# Altium footprint library IC.PcbLib: 14 footprints
Each footprint in its own frame and in the unit in brackets; x right, y up, seen from the top. Pads: shape width x height; smd on the part's side, far side on the other; paste and mask are expansions set on the pad; w line width, h text height; cw(c..) or ccw(c..) is an arc to the next point about the centre after c.
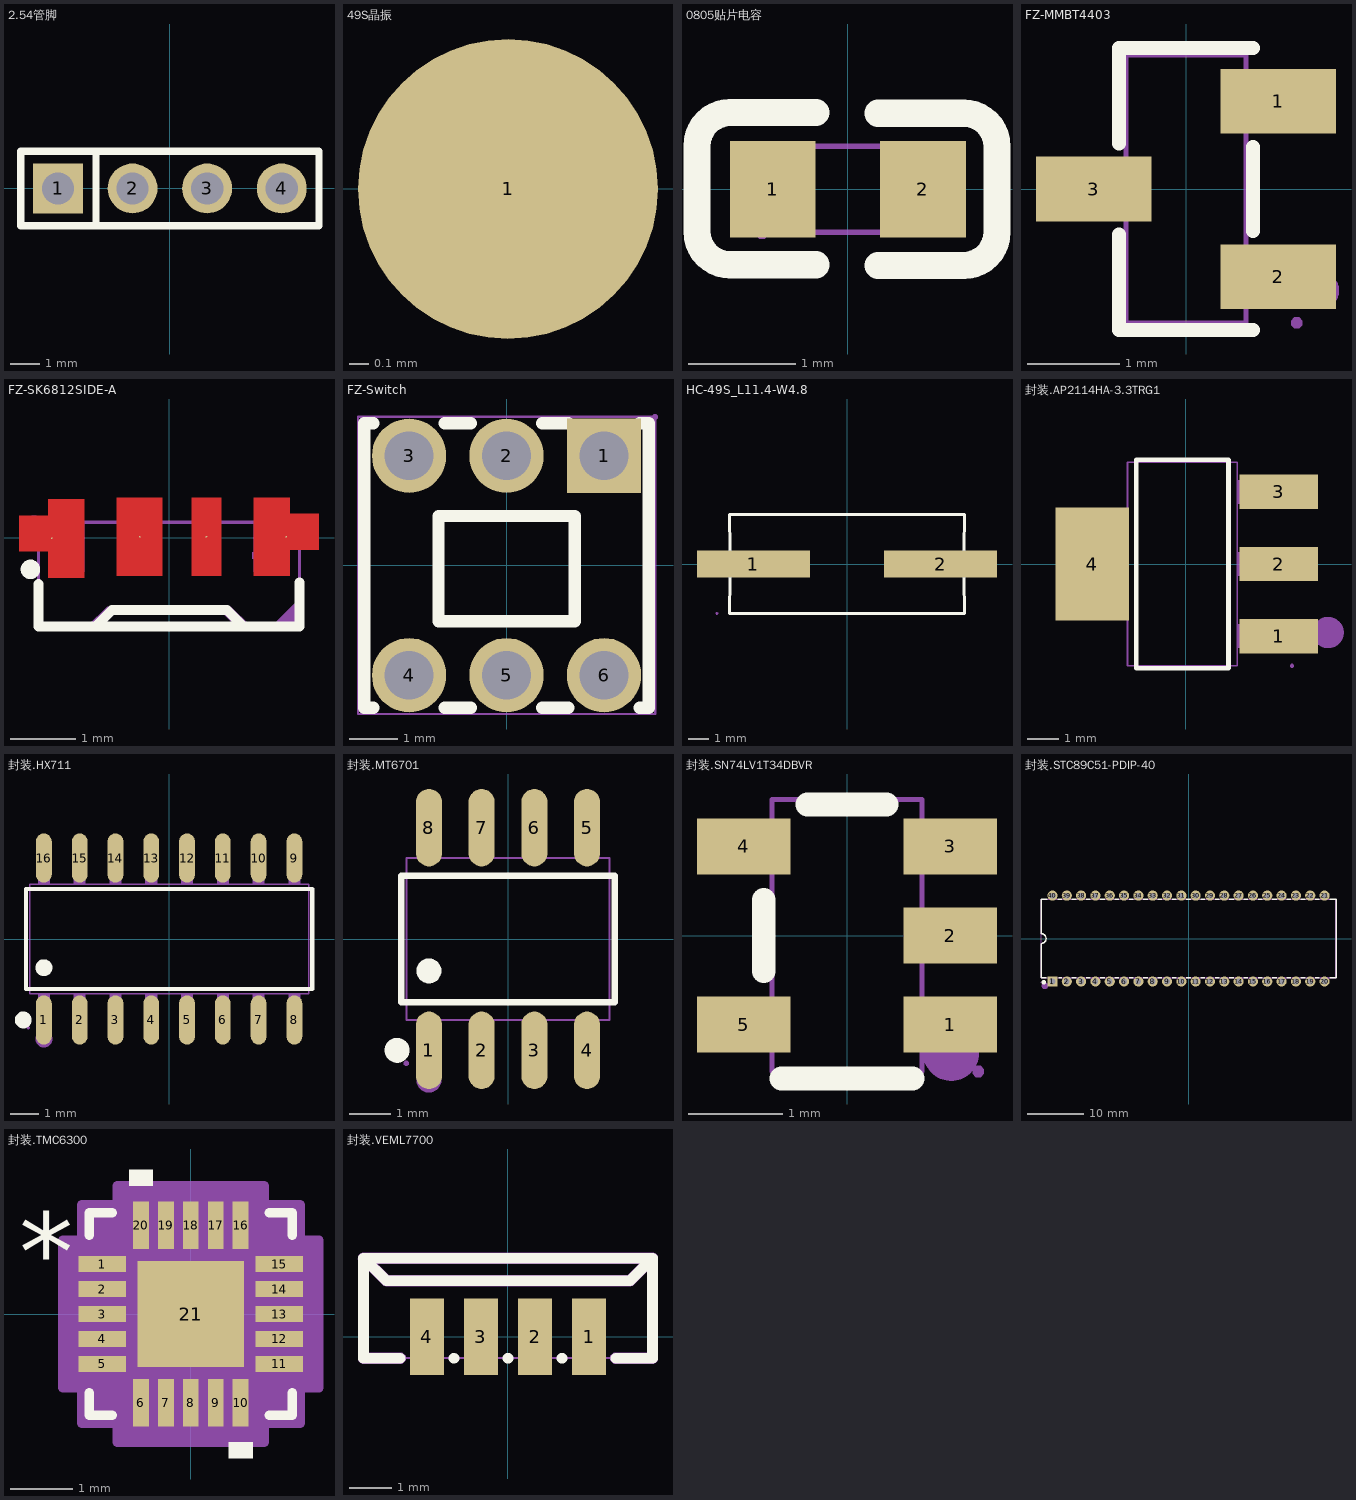
[diagram p0: the footprints below, top view; thin cyan lines are the x and y axes]

## 2.54管脚 [mm]
pads (4):
  rect 1.7x1.7 hole 1.1: 1(-3.81,0)
  round 1.7 hole 1.1: 2(-1.27,0) 3(1.27,0) 4(3.81,0)
Top Overlay:
  lines w0.254: -2.516,-1.27 -2.516,1.27 ; -2.516,1.27 -5.08,1.27 -5.08,-1.27 5.08,-1.27 5.08,1.27 -2.516,1.27
Mechanical 15:
  region: 3.49,0.32 4.13,0.32 4.13,-0.32 3.49,-0.32
  region: 0.95,0.32 1.59,0.32 1.59,-0.32 0.95,-0.32
  region: -1.59,0.32 -0.95,0.32 -0.95,-0.32 -1.59,-0.32
  region: -4.13,0.32 -3.49,0.32 -3.49,-0.32 -4.13,-0.32
  region: -5.02,-1.25 -5.02,-1.225 -5.055,-1.19 -5.105,-1.19 -5.14,-1.225 -5.14,-1.25 -5.14,-1.275 -5.105,-1.31 -5.055,-1.31 -5.02,-1.275 -5.02,-1.25
  lines w0.051: -5.08,-1.25 5.08,-1.25 5.08,1.25 -5.08,1.25 -5.08,-1.25

## 49S晶振 [mil]
pads (1):
  round 60 all layers, no hole: 1(-51.34,-0.03)

## 0805贴片电容 [mm]
pads (2):
  rect 0.8x0.9 smd: 1(-0.7,0) 2(0.7,0)
Top Overlay:
  lines w0.254: -0.296,-0.704 -1.096,-0.704 cw(c-1.096,-0.394) -1.406,-0.394 -1.405,0.406 cw(c-1.096,0.406) -1.096,0.715 -0.296,0.715 ; 0.28,-0.71 1.08,-0.71 ccw(c1.08,-0.4) 1.39,-0.4 1.39,0.4 ccw(c1.08,0.4) 1.08,0.71 0.28,0.71
Mechanical 15:
  region: -0.8,-0.4 -0.8,0.4 -0.5,0.4 -0.5,-0.4
  region: 0.8,-0.4 0.8,0.4 0.5,0.4 0.5,-0.4
  region: -0.74,-0.4 -0.74,-0.375 -0.775,-0.34 -0.825,-0.34 -0.86,-0.375 -0.86,-0.4 -0.86,-0.425 -0.825,-0.46 -0.775,-0.46 -0.74,-0.425 -0.74,-0.4
  lines w0.051: -0.8,-0.4 -0.8,0.4 0.8,0.4 0.8,-0.4 -0.8,-0.4

## FZ-MMBT4403 [mm]
pads (3):
  rect 1.25x0.7 smd: 1(1,0.95) 2(1,-0.95) 3(-1,0)
Top Overlay:
  lines w0.152: -0.726,-0.495 -0.726,-1.526 0.726,-1.526 ; -0.726,0.495 -0.726,1.526 0.726,1.526 ; 0.726,-0.455 0.726,0.455
Mechanical 6:
  circle w0.2: c1.46,-1.1 r0.1
Mechanical 15:
  region: -1.2,-0.215 -1.2,0.215 -0.9,0.215 -0.9,-0.215
  region: -0.91,-0.215 -0.91,0.215 -0.64,0.215 -0.64,-0.215
  region: 0.9,-1.165 0.9,-0.735 1.2,-0.735 1.2,-1.165
  region: 0.64,-1.165 0.64,-0.735 0.91,-0.735 0.91,-1.165
  region: 0.9,0.735 0.9,1.165 1.2,1.165 1.2,0.735
  region: 0.64,0.735 0.64,1.165 0.91,1.165 0.91,0.735
  region: 1.26,-1.45 1.26,-1.425 1.225,-1.39 1.175,-1.39 1.14,-1.425 1.14,-1.45 1.14,-1.475 1.175,-1.51 1.225,-1.51 1.26,-1.475 1.26,-1.45
  lines w0.051: -0.65,-1.45 0.65,-1.45 0.65,1.45 -0.65,1.45 -0.65,-1.45

## FZ-SK6812SIDE-A [mil]
pads (4):
  round 1 smd: 1(-70.87,-0.49) 2(-17.72,0.49) 3(22.63,0.49) 4(70.86,0.49)
Top Layer:
  region: 51.18,24.11 51.18,-23.13 72.83,-23.13 72.83,-7.38 90.55,-7.38 90.55,14.27 72.83,14.27 72.83,24.11
  region: 13.78,-23.13 31.49,-23.13 31.49,24.11 13.78,24.11
  region: -51.18,23.13 -51.18,-24.11 -72.84,-24.11 -72.84,-8.37 -90.55,-8.37 -90.55,13.29 -72.84,13.29 -72.84,23.13
  region: -31.5,24.11 -31.5,-23.13 -3.94,-23.13 -3.94,24.11
Top Overlay:
  circle w5.91: c-83.67,-19.2 r2.95
  lines w5.98: -78.74,-27.95 -78.74,-53.64 78.74,-53.64 78.74,-26.97 ; -46.13,-53.64 -44.29,-53.64 -34.45,-43.8 34.96,-43.8 44.8,-53.64
Mechanical 6:
  circle w7.87: c-81.69,5.42 r3.94
  region: 50.2,-12.79 50.2,-8.86 72.83,-8.86 72.83,-12.79
  region: -15.26,-23.13 -19.19,-23.13 -19.2,-0.49 -15.26,-0.49
  region: -28.55,-13.78 -28.55,-9.84 -5.91,-9.84 -5.91,-13.78
  region: -49.22,-53.64 -40.36,-53.64 -32.48,-45.77 32.48,-45.77 40.35,-53.64 49.21,-53.64 37.4,-41.83 -37.4,-41.83
  region: 78.74,-53.64 78.74,-36.91 62.01,-53.64
Mechanical 15:
  region: -51.18,-20.67 -51.18,8.86 -72.85,8.86 -76.78,8.86 -76.78,-2.95 -72.84,-2.95 -68.9,-2.95 -68.9,-20.67
  region: 51.18,-20.67 51.18,8.86 72.83,8.86 80.7,8.86 80.7,-2.95 68.89,-2.95 68.89,-20.67
  region: 15.74,-20.67 29.52,-20.67 29.52,8.86 15.74,8.86
  region: -29.53,8.86 -5.91,8.86 -5.91,-20.67 -29.53,-20.67
  region: -76.38,-53.65 -76.38,-52.67 -77.77,-51.28 -79.72,-51.28 -81.11,-52.67 -81.11,-53.65 -81.11,-54.62 -79.72,-56.01 -77.77,-56.01 -76.38,-54.62 -76.38,-53.65
  lines w2: -78.74,-53.64 78.74,-53.64 78.74,9.35 -78.74,9.35 -78.74,-53.64

## FZ-Switch [mil]
pads (6):
  rect 60x60 hole 39.37: 1(78.74,88.58)
  round 60 hole 39.37: 2(0,88.58) 3(-78.74,88.58) 4(-78.74,-88.59) 5(0,-88.59) 6(78.74,-88.59)
Top Overlay:
  lines w10: -107.53,-115 -115,-115 -115,115 -107.53,115 ; -49.95,-115 -28.79,-115 ; -49.95,115 -28.79,115 ; 28.79,-115 49.95,-115 ; 28.79,115 49.95,115 ; 107.53,-115 115,-115 115,115 107.53,115 ; -55,-44.99 -55,40.01 55,40.01 55,-44.99 -55,-44.99
Mechanical 15:
  region: 94.48,-88.58 94.48,-85.45 92.09,-79.67 87.66,-75.24 81.87,-72.84 75.61,-72.84 69.82,-75.24 65.39,-79.67 63,-85.45 63,-88.58 63,-91.72 65.39,-97.5 69.82,-101.93 75.61,-104.33 81.87,-104.33 87.66,-101.93 92.09,-97.5 94.48,-91.72 94.48,-88.58
  region: 15.74,-88.58 15.74,-85.45 13.35,-79.67 8.92,-75.24 3.13,-72.84 -3.13,-72.84 -8.92,-75.24 -13.35,-79.67 -15.74,-85.45 -15.74,-88.58 -15.74,-91.72 -13.35,-97.5 -8.92,-101.93 -3.13,-104.33 3.13,-104.33 8.92,-101.93 13.35,-97.5 15.74,-91.72 15.74,-88.58
  region: -63,-88.58 -63,-85.45 -65.39,-79.67 -69.82,-75.24 -75.61,-72.84 -81.87,-72.84 -87.66,-75.24 -92.09,-79.67 -94.48,-85.45 -94.48,-88.58 -94.48,-91.72 -92.09,-97.5 -87.66,-101.93 -81.87,-104.33 -75.61,-104.33 -69.82,-101.93 -65.39,-97.5 -63,-91.72 -63,-88.58
  region: -63,88.58 -63,91.72 -65.39,97.5 -69.82,101.93 -75.61,104.33 -81.87,104.33 -87.66,101.93 -92.09,97.5 -94.48,91.72 -94.48,88.58 -94.48,85.45 -92.09,79.67 -87.66,75.24 -81.87,72.84 -75.61,72.84 -69.82,75.24 -65.39,79.67 -63,85.45 -63,88.58
  region: 15.74,88.58 15.74,91.72 13.35,97.5 8.92,101.93 3.13,104.33 -3.13,104.33 -8.92,101.93 -13.35,97.5 -15.74,91.72 -15.74,88.58 -15.74,85.45 -13.35,79.67 -8.92,75.24 -3.13,72.84 3.13,72.84 8.92,75.24 13.35,79.67 15.74,85.45 15.74,88.58
  region: 94.48,88.58 94.48,91.72 92.09,97.5 87.66,101.93 81.87,104.33 75.61,104.33 69.82,101.93 65.39,97.5 63,91.72 63,88.58 63,85.45 65.39,79.67 69.82,75.24 75.61,72.84 81.87,72.84 87.66,75.24 92.09,79.67 94.48,85.45 94.48,88.58
  region: 122.36,120 122.36,120.98 120.98,122.37 119.02,122.37 117.64,120.98 117.64,120 117.64,119.03 119.02,117.64 120.98,117.64 122.36,119.03 122.36,120
  lines w2: -120,-120 -120,120 120,120 120,-120 -120,-120

## HC-49S_L11.4-W4.8 [mm]
pads (2):
  rect 5.5x1.3 smd: 1(-4.553,0) 2(4.553,0)
Top Overlay:
  lines w0.152: -5.715,-2.413 -5.7,-0.662 -5.715,-2.413 ; -5.715,-2.413 5.715,-2.413 ; -5.715,-2.413 5.715,-2.413 ; -5.715,2.413 5.715,2.413 ; -5.715,2.413 -5.7,0.662 -5.715,2.413 ; -5.715,2.413 5.715,2.413 ; 5.715,-2.413 5.7,-0.662 5.715,-2.413 ; 5.715,2.413 5.7,0.662 5.715,2.413
Mechanical 15:
  region: -6.28,-2.4 -6.28,-2.375 -6.315,-2.34 -6.365,-2.34 -6.4,-2.375 -6.4,-2.4 -6.4,-2.425 -6.365,-2.46 -6.315,-2.46 -6.28,-2.425 -6.28,-2.4
  region: -1.84,-0.4 -6.34,-0.4 -6.34,0.4 -1.84,0.4
  region: 6.34,-0.4 1.84,-0.4 1.84,0.4 6.34,0.4
  lines w0.051: -5.7,-2.4 5.7,-2.4 5.7,2.4 -5.7,2.4 -5.7,-2.4

## 封装.AP2114HA-3.3TRG1 [mm]
pads (4):
  rect 2.5x1.1 smd: 1(2.97,-2.3) 2(2.97,0) 3(2.97,2.3)
  rect 2.34x3.6 smd: 4(-2.97,0)
Top Overlay:
  lines w0.152: -1.571,-3.326 -1.571,3.326 1.371,3.326 1.371,-3.326 -1.571,-3.326
Mechanical 6:
  circle w0.5: c4.552,-2.188 r0.25
Mechanical 15:
  region: 3.46,-3.25 3.46,-3.225 3.425,-3.19 3.375,-3.19 3.34,-3.225 3.34,-3.25 3.34,-3.275 3.375,-3.31 3.425,-3.31 3.46,-3.275 3.46,-3.25
  region: 1.64,1.925 1.64,2.675 2.66,2.675 2.66,1.925
  region: 2.65,1.925 2.65,2.675 3.4,2.675 3.4,1.925
  region: 1.64,-0.375 1.64,0.375 2.66,0.375 2.66,-0.375
  region: 2.65,-0.375 2.65,0.375 3.4,0.375 3.4,-0.375
  region: 1.64,-2.675 1.64,-1.925 2.66,-1.925 2.66,-2.675
  region: 2.65,-2.675 2.65,-1.925 3.4,-1.925 3.4,-2.675
  region: -2.86,-1.5 -2.86,1.5 -1.84,1.5 -1.84,-1.5
  region: -3.6,-1.5 -3.6,1.5 -2.85,1.5 -2.85,-1.5
  lines w0.051: -1.85,-3.25 -1.85,3.25 1.65,3.25 1.65,-3.25 -1.85,-3.25

## 封装.HX711 [mm]
pads (16):
  oval 0.56x1.745 smd: 1(-4.445,-2.872) 2(-3.175,-2.872) 3(-1.905,-2.872) 4(-0.635,-2.872) 5(0.635,-2.872) 6(1.905,-2.872) 7(3.175,-2.872) 8(4.445,-2.872) 9(4.445,2.872) 10(3.175,2.872) 11(1.905,2.872) 12(0.635,2.872) 13(-0.635,2.872) 14(-1.905,2.872) 15(-3.175,2.872) 16(-4.445,2.872)
Top Overlay:
  circle w0.3: c-5.177,-2.872 r0.15
  circle w0.3: c-4.445,-1.019 r0.15
  lines w0.152: -5.076,-1.771 5.076,-1.771 5.076,1.771 -5.076,1.771 -5.076,-1.771
Mechanical 6:
  circle w0.3: c-4.445,-3.55 r0.15
Mechanical 15:
  drawing of 37 lines, arcs and shapes, not listed

## 封装.MT6701 [mm]
pads (8):
  oval 0.63x1.865 smd: 1(-1.905,-2.682) 2(-0.635,-2.682) 3(0.635,-2.682) 4(1.905,-2.682) 5(1.905,2.682) 6(0.635,2.682) 7(-0.635,2.682) 8(-1.905,2.682)
Top Overlay:
  circle w0.3: c-1.905,-0.769 r0.15
  circle w0.3: c-2.672,-2.682 r0.15
  lines w0.152: -2.576,-1.521 -2.576,1.521 2.576,1.521 2.576,-1.521 -2.576,-1.521
Mechanical 6:
  circle w0.3: c-1.905,-3.4 r0.15
Mechanical 15:
  region: -2.39,-3 -2.39,-2.975 -2.425,-2.94 -2.475,-2.94 -2.51,-2.975 -2.51,-3 -2.51,-3.025 -2.475,-3.06 -2.425,-3.06 -2.39,-3.025 -2.39,-3
  region: 1.695,1.94 1.695,2.175 2.115,2.175 2.115,1.94
  region: 1.695,2.165 1.695,3 2.115,3 2.115,2.165
  region: 0.425,1.94 0.425,2.175 0.845,2.175 0.845,1.94
  region: 0.425,2.165 0.425,3 0.845,3 0.845,2.165
  region: -0.845,1.94 -0.845,2.175 -0.425,2.175 -0.425,1.94
  region: -0.845,2.165 -0.845,3 -0.425,3 -0.425,2.165
  region: -2.115,1.94 -2.115,2.175 -1.695,2.175 -1.695,1.94
  region: -2.115,2.165 -2.115,3 -1.695,3 -1.695,2.165
  region: 1.695,-2.175 1.695,-1.94 2.115,-1.94 2.115,-2.175
  region: 1.695,-3 1.695,-2.165 2.115,-2.165 2.115,-3
  region: 0.425,-2.175 0.425,-1.94 0.845,-1.94 0.845,-2.175
  region: 0.425,-3 0.425,-2.165 0.845,-2.165 0.845,-3
  region: -0.845,-2.175 -0.845,-1.94 -0.425,-1.94 -0.425,-2.175
  region: -0.845,-3 -0.845,-2.165 -0.425,-2.165 -0.425,-3
  region: -2.115,-2.175 -2.115,-1.94 -1.695,-1.94 -1.695,-2.175
  region: -2.115,-3 -2.115,-2.165 -1.695,-2.165 -1.695,-3
  lines w0.051: -2.45,-1.95 -2.45,1.95 2.45,1.95 2.45,-1.95 -2.45,-1.95

## 封装.SN74LV1T34DBVR [mm]
pads (5):
  rect 1x0.6 smd paste+0 mask+0.05: 1(1.1,-0.95) 2(1.1,0) 3(1.1,0.95) 4(-1.1,0.95) 5(-1.1,-0.95)
Top Overlay:
  lines w0.254: -0.889,-0.381 -0.889,0.381 ; -0.699,-1.524 0.698,-1.524 ; -0.422,1.397 0.422,1.397
Mechanical 6:
  circle w0.3: c1.11,-1.25 r0.15
Mechanical 15:
  region: 1.46,-1.45 1.46,-1.425 1.425,-1.39 1.375,-1.39 1.34,-1.425 1.34,-1.45 1.34,-1.475 1.375,-1.51 1.425,-1.51 1.46,-1.475 1.46,-1.45
  region: -0.95,-1.15 -1.4,-1.15 -1.4,-0.75 -0.95,-0.75
  region: -0.79,-1.15 -0.96,-1.15 -0.96,-0.75 -0.79,-0.75
  region: -0.95,0.75 -1.4,0.75 -1.4,1.15 -0.95,1.15
  region: -0.79,0.75 -0.96,0.75 -0.96,1.15 -0.79,1.15
  region: 1.4,-1.15 0.95,-1.15 0.95,-0.75 1.4,-0.75
  region: 0.96,-1.15 0.79,-1.15 0.79,-0.75 0.96,-0.75
  region: 1.4,0.75 0.95,0.75 0.95,1.15 1.4,1.15
  region: 0.96,0.75 0.79,0.75 0.79,1.15 0.96,1.15
  region: 1.4,-0.2 0.95,-0.2 0.95,0.2 1.4,0.2
  region: 0.96,-0.2 0.79,-0.2 0.79,0.2 0.96,0.2
  lines w0.051: -0.8,-1.45 0.8,-1.45 0.8,1.45 -0.8,1.45 -0.8,-1.45

## 封装.STC89C51-PDIP-40 [mm]
pads (40):
  rect 1.8x1.8 hole 1: 1(-24.13,-7.62)
  round 1.8 hole 1: 2(-21.59,-7.62) 3(-19.05,-7.62) 4(-16.51,-7.62) 5(-13.97,-7.62) 6(-11.43,-7.62) 7(-8.89,-7.62) 8(-6.35,-7.62) 9(-3.81,-7.62) 10(-1.27,-7.62) 11(1.27,-7.62) 12(3.81,-7.62) 13(6.35,-7.62) 14(8.89,-7.62) 15(11.43,-7.62) 16(13.97,-7.62) 17(16.51,-7.62) 18(19.05,-7.62) 19(21.59,-7.62) 20(24.13,-7.62) 21(24.13,7.62) 22(21.59,7.62) 23(19.05,7.62) 24(16.51,7.62) 25(13.97,7.62) 26(11.43,7.62) 27(8.89,7.62) 28(6.35,7.62) 29(3.81,7.62) 30(1.27,7.62) 31(-1.27,7.62) 32(-3.81,7.62) 33(-6.35,7.62) 34(-8.89,7.62) 35(-11.43,7.62) 36(-13.97,7.62) 37(-16.51,7.62) 38(-19.05,7.62) 39(-21.59,7.62) 40(-24.13,7.62)
Top Overlay:
  circle w0.4: c-25.67,-7.75 r0.2
  lines w0.254: -25.261,-6.934 -26.162,-6.934 -26.162,-0.889 ccw(c-26.162,0) -26.162,0.889 -26.162,6.934 -25.029,6.934 ; -23.231,6.934 -22.489,6.934 ; -22.999,-6.934 -22.489,-6.934 ; -20.691,-6.934 -19.949,-6.934 ; -20.691,6.934 -19.949,6.934 ; -18.151,-6.934 -17.409,-6.934 ; -18.151,6.934 -17.409,6.934 ; -15.611,-6.934 -14.869,-6.934 ; -15.611,6.934 -14.869,6.934 ; -13.071,-6.934 -12.329,-6.934 ; -13.071,6.934 -12.329,6.934 ; -10.531,-6.934 -9.789,-6.934 ; -10.531,6.934 -9.789,6.934 ; -7.991,-6.934 -7.249,-6.934 ; -7.991,6.934 -7.249,6.934 ; -5.451,-6.934 -4.709,-6.934 ; -5.451,6.934 -4.709,6.934 ; -2.911,-6.934 -2.169,-6.934 ; -2.911,6.934 -2.169,6.934 ; -0.371,-6.934 0.371,-6.934 ; -0.371,6.934 0.371,6.934 ; 2.169,-6.934 2.911,-6.934 ; 2.169,6.934 2.911,6.934 ; 4.709,-6.934 5.451,-6.934 ; 4.709,6.934 5.451,6.934 ; 7.249,-6.934 7.991,-6.934 ; 7.249,6.934 7.991,6.934 ; 9.789,-6.934 10.531,-6.934 ; 9.789,6.934 10.531,6.934 ; 12.329,-6.934 13.071,-6.934 ; 12.329,6.934 13.071,6.934 ; 14.869,-6.934 15.611,-6.934 ; 14.869,6.934 15.611,6.934 ; 17.409,-6.934 18.151,-6.934 ; 17.409,6.934 18.151,6.934 ; 19.949,-6.934 20.691,-6.934 ; 19.949,6.934 20.691,6.934 ; 22.489,-6.934 23.231,-6.934 ; 22.489,6.934 23.231,6.934 ; 25.029,-6.934 26.162,-6.934 26.162,6.934 25.029,6.934
Mechanical 6:
  circle w0.6: c-25.47,-8.37 r0.3
Mechanical 15:
  drawing of 85 lines, arcs and shapes, not listed

## 封装.TMC6300 [mil]
pads (21):
  rect 30x10 smd paste+0 mask+0: 1(-56,31.5) 2(-56,15.75) 3(-56,0) 4(-56,-15.75) 5(-56,-31.5) 11(56,-31.5) 12(56,-15.75) 13(56,0) 14(56,15.75) 15(56,31.5)
  rect 10x30 smd paste+0 mask+0: 6(-31.5,-56) 7(-15.75,-56) 8(0,-56) 9(15.75,-56) 10(31.5,-56) 16(31.5,56) 17(15.75,56) 18(0,56) 19(-15.75,56) 20(-31.5,56)
  rect 67x67 smd paste+0 mask+0: 21(0,0)
Top Overlay:
  region: -24,81 -39,81 -39,91 -24,91
  region: 39,-81 24,-81 24,-91 39,-91
  lines w6: -64,-49.6 -64,-64 -49.6,-64 ; -64,49.6 -64,64 -49.6,64 ; 49.6,-64 64,-64 64,-49.6 ; 49.6,64 64,64 64,49.6
  text "*" at -108.5,14.37 h50
Mechanical 13:
  lines w1: -59,9 -9,59 ; -59,-59 -59,59 59,59 59,-59 -59,-59 ; -59,-36.5 -59,-26.5 -59,-36.5 ; -59,-20.75 -59,-10.75 -59,-20.75 ; -59,-5 -59,5 -59,-5 ; -59,10.75 -59,20.75 -59,10.75 ; -59,26.5 -59,36.5 -59,26.5 ; -36.5,-59 -26.5,-59 -36.5,-59 ; -36.5,59 -26.5,59 -36.5,59 ; -20.75,-59 -10.75,-59 -20.75,-59 ; -20.75,59 -10.75,59 -20.75,59 ; -5,-59 5,-59 -5,-59 ; -5,59 5,59 -5,59 ; 10.75,-59 20.75,-59 10.75,-59 ; 10.75,59 20.75,59 10.75,59 ; 26.5,-59 36.5,-59 26.5,-59 ; 26.5,59 36.5,59 26.5,59 ; 59,-36.5 59,-26.5 59,-36.5 ; 59,-20.75 59,-10.75 59,-20.75 ; 59,-5 59,5 59,-5 ; 59,10.75 59,20.75 59,10.75 ; 59,26.5 59,36.5 59,26.5
  text "*" at -53.5,14.37 h50
Mechanical 15:
  region: -46.5,-69 -69,-69 -69,-46.5 -81,-46.5 -81,46.5 -69,46.5 -69,69 -46.5,69 -46.5,81 46.5,81 46.5,69 69,69 69,46.5 81,46.5 81,-46.5 69,-46.5 69,-69 46.5,-69 46.5,-81 -46.5,-81
  lines w6: -81,-46.5 -81,46.5 -69,46.5 -69,69 -46.5,69 -46.5,81 46.5,81 46.5,69 69,69 69,46.5 81,46.5 81,-46.5 69,-46.5 69,-69 46.5,-69 46.5,-81 -46.5,-81 -46.5,-69 -69,-69 -69,-46.5 -81,-46.5

## 封装.VEML7700 [mm]
pads (4):
  rect 0.8x1.8 smd paste+0 mask+0.05: 1(1.905,0) 2(0.635,0) 3(-0.635,0) 4(-1.905,0)
Top Overlay:
  lines w0.254: -2.536,-0.5 -3.4,-0.5 -3.4,1.85 ; -1.274,-0.5 -1.266,-0.5 ; -0.004,-0.5 0.004,-0.5 ; 1.266,-0.5 1.274,-0.5 ; 2.536,-0.5 3.4,-0.5 3.4,1.85 ; -3.4,1.85 3.4,1.85 ; -3.4,1.85 -3.39,1.85 -2.86,1.32 2.87,1.32 3.4,1.85
Mechanical 6:
  region: -2.86,1.193 -2.873,1.193 -2.897,1.198 -2.92,1.207 -2.941,1.221 -2.95,1.23 -3.455,1.736 -3.471,1.743 -3.498,1.767 -3.517,1.798 -3.527,1.832 -3.527,1.85 -3.527,1.875 -3.508,1.922 -3.472,1.958 -3.425,1.977 -3.4,1.977 -3.39,1.977 -3.377,1.977 -3.353,1.972 -3.33,1.963 -3.309,1.949 -3.3,1.94 -2.807,1.447 2.817,1.447 3.31,1.94 3.319,1.949 3.34,1.963 3.363,1.972 3.387,1.977 3.4,1.977 3.425,1.977 3.472,1.958 3.508,1.922 3.527,1.875 3.527,1.85 3.527,1.837 3.522,1.813 3.513,1.79 3.499,1.769 3.49,1.76 2.96,1.23 2.951,1.221 2.93,1.207 2.907,1.198 2.883,1.193 2.87,1.193
  region: -2.536,-0.627 -3.4,-0.627 -3.425,-0.627 -3.472,-0.608 -3.508,-0.572 -3.527,-0.525 -3.527,-0.5 -3.527,1.85 -3.527,1.875 -3.508,1.922 -3.472,1.958 -3.425,1.977 -3.4,1.977 3.4,1.977 3.425,1.977 3.472,1.958 3.508,1.922 3.527,1.875 3.527,1.85 3.527,-0.5 3.527,-0.525 3.508,-0.572 3.472,-0.608 3.425,-0.627 3.4,-0.627 2.536,-0.627 2.484,-0.627 2.409,-0.553 2.409,-0.447 2.484,-0.373 2.536,-0.373 3.273,-0.373 3.273,1.723 -3.273,1.723 -3.273,-0.373 -2.536,-0.373 -2.484,-0.373 -2.409,-0.447 -2.409,-0.553 -2.484,-0.627 -2.536,-0.627
Mechanical 15:
  region: 1.655,0.5 2.155,0.5 2.155,-0.5 1.655,-0.5
  region: 0.385,0.5 0.885,0.5 0.885,-0.5 0.385,-0.5
  region: -0.885,0.5 -0.385,0.5 -0.385,-0.5 -0.885,-0.5
  region: -2.155,0.5 -1.655,0.5 -1.655,-0.5 -2.155,-0.5
  region: -3.34,-0.5 -3.34,-0.475 -3.375,-0.44 -3.425,-0.44 -3.46,-0.475 -3.46,-0.5 -3.46,-0.525 -3.425,-0.56 -3.375,-0.56 -3.34,-0.525 -3.34,-0.5
  lines w0.051: -3.4,-0.5 3.4,-0.5 3.4,1.85 -3.4,1.85 -3.4,-0.5